# EAGLE library part LTC6602 (library analog)
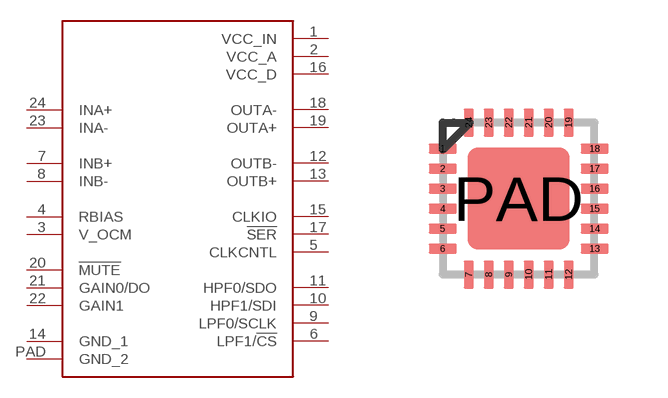
[diagram p2: symbol with the pads of QFN24_4X4MM; footprint QFN24_4X4MM]

Designator prefix -

## LTC6602  [QFN24_4X4MM]
1  VCC_IN
2  VCC_A
3  V_OCM
4  RBIAS
5  CLKCNTL
6  LPF1/!CS
7  INB+
8  INB-
9  LPF0/SCLK
10  HPF1/SDI
11  HPF0/SDO
12  OUTB-
13  OUTB+
14  GND_1
15  CLKIO
16  VCC_D
17  !SER
18  OUTA-
19  OUTA+
20  !MUTE
21  GAIN0/DO
22  GAIN1
23  INA-
24  INA+
PAD  GND_2

## Footprint QFN24_4X4MM (pad centres in mm)
QFN28-ML_6X6MM Source: http://www.microchip.com .. 39637a.pdf
smd 0.7 x 0.25: 1 -1.9,1.25; 2 -1.9,0.75; 3 -1.9,0.25; 4 -1.9,-0.25; 5 -1.9,-0.75; 6 -1.9,-1.25; 13 1.9,-1.25; 14 1.9,-0.75; 15 1.9,-0.25; 16 1.9,0.25; 17 1.9,0.75; 18 1.9,1.25
smd 0.25 x 0.7: 7 -1.25,-1.9; 8 -0.75,-1.9; 9 -0.25,-1.9; 10 0.25,-1.9; 11 0.75,-1.9; 12 1.25,-1.9; 19 1.25,1.9; 20 0.75,1.9; 21 0.25,1.9; 22 -0.25,1.9; 23 -0.75,1.9; 24 -1.25,1.9
smd 2.54 x 2.54: PAD 0,0